# Altium schematic symbol library PY32_TSSOP20_SCH.SCHLIB: 12 symbols
Pins are listed as number, name and electrical type; pins without a type are passive.

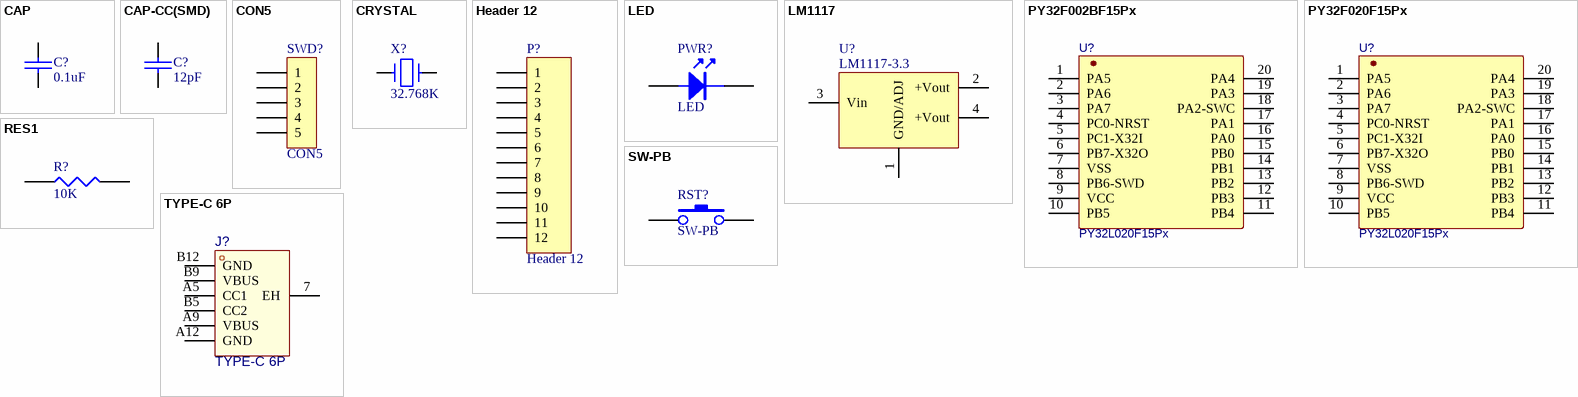
[diagram p0: symbols CAP to TYPE-C 6P]

## CAP
designator C?, comment 0.1uF
Capacitor
footprint C0603
pins: 1, 2

## CAP-CC(SMD)
designator C?, comment 12pF
Ceramic Capacitor,0603
footprint C0603
footprint 0805
footprint 1206
footprint 1210
footprint c0603
pins: 1, 2
2 alternate drawings of the same symbol

## CON5
designator SWD?
Connector
footprint SIP-5
pins: 1, 2, 3, 4, 5

## CRYSTAL
designator X?, comment 32.768K
Crystal
footprint SMD-3215_2P
pins: 1, 2

## Header 12
designator P?
Header, 12-Pin; LatestRevisionDate: 17-Jul-2002; LatestRevisionNote: Re-released for DXP Platform.; Publisher: Altium Limited
footprint HDR1X12 (Connector; Header; 12 Position)
signal-integrity model Connector
pins: 1, 2, 3, 4, 5, 6, 7, 8, 9, 10, 11, 12

## LED
designator PWR?
footprint LED_0603 (REFLOW)
pins: 1, 2

## LM1117
designator U?, comment LM1117-3.3
footprint SOT223
pins: 1 GND/ADJ, 2 +Vout, 3 Vin, 4 +Vout
2 alternate drawings of the same symbol

## PY32F002BF15Px
designator U?, comment PY32L020F15Px
TSSOP20; BOM_Manufacturer: PUYA(普冉); BOM_Manufacturer Part: PY32F002BF15Px; spicePre: U; spiceSymbolName: PY32F002BF15Px
footprint TSSOP20 (Footprint not found)
pins: 1 PA5, 2 PA6, 3 PA7, 4 PC0-NRST, 5 PC1-X32I, 6 PB7-X32O, 7 VSS, 8 PB6-SWD, 9 VCC, 10 PB5, 11 PB4, 12 PB3, 13 PB2, 14 PB1, 15 PB0, 16 PA0, 17 PA1, 18 PA2-SWC, 19 PA3, 20 PA4

## PY32F020F15Px
designator U?, comment PY32L020F15Px
TSSOP20; BOM_Manufacturer: PUYA(普冉); BOM_Manufacturer Part: PY32F002BF15Px; spicePre: U; spiceSymbolName: PY32F002BF15Px
footprint TSSOP20 (Footprint not found)
pins: 1 PA5, 2 PA6, 3 PA7, 4 PC0-NRST, 5 PC1-X32I, 6 PB7-X32O, 7 VSS, 8 PB6-SWD, 9 VCC, 10 PB5, 11 PB4, 12 PB3, 13 PB2, 14 PB1, 15 PB0, 16 PA0, 17 PA1, 18 PA2-SWC, 19 PA3, 20 PA4

## RES1
designator R?, comment 10K
footprint 0603
pins: 1, 2

## SW-PB
designator RST?
footprint PUSH_BUTTON
pins: 1, 2

## TYPE-C 6P
designator J?
AddInBom: yes; ModelId: 3770c5585474407db939b2377e27177a0819f05c4eef4c71ace90d822a990e87; ModelName: TYPE-C-SMD_6P-L8.9-W6.8-H3.2-P1.00; ModelTransform: 351.9678,267.716,0,180,0,0,0,-48.226,-39.37; Number of Ports: 1; Current Rating - Power (Max): 5A; Rated Voltage (Max): 20V; Symbol: TYPE-C 6P; Device: TYPE-C 6P; SupplierPart: C456012; ManufacturerPart: TYPE-C 6P; Supplier Footprint: SMD; JLCPCB Part Class: Extended Part; Datasheet: https://atta.szlcsc.com/upload/public/pdf/source/20201203/C456012_B13F72044DF846EDBE9BDD0D1D3CD166.pdf; Supplier: LCSC; ConvertToPcb: yes; FootprintName: TYPE-C-SMD_TYPE-C-6P; Connector Type: Type-C; Standard: USB 3.1; Number of Contacts: 6P
footprint USB-TYPEC-6P
pins: 7 EH, A5 CC1, A9 VBUS, A12 GND, B5 CC2, B9 VBUS, B12 GND